# EAGLE library part DPAD (library dualshock-button-pads)
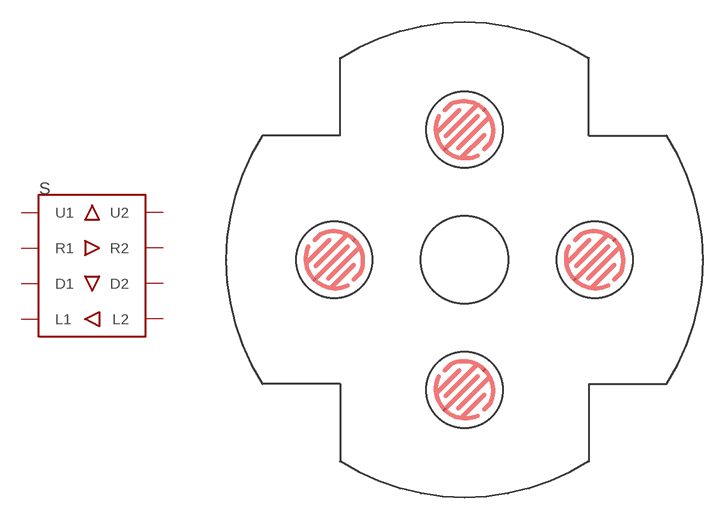
[diagram p0: symbol with the pads of DPAD_V4; footprint DPAD_V4]

Designator prefix S

## DPADV4  [DPAD_V4]
D1  D1
D2  D2
L1  L1
L2  L2
R1  R1
R2  R2
U1  U1
U2  U2

## Footprint DPAD_V4 (pad centres in mm)
smd 0.2 x 0.2 rotated 45: D1 -1.343,-10.243; D2 1.343,-7.556; L1 -10.243,-1.343; L2 -7.556,1.343; R1 7.556,-1.343; R2 10.243,1.343; U1 -1.343,7.556; U2 1.343,10.243